# Altium footprint library SnapEDApcb.PcbLib: 1 footprints
Each footprint in its own frame and in the unit in brackets; x right, y up, seen from the top. Pads: shape width x height; smd on the part's side, far side on the other; paste and mask are expansions set on the pad; w line width, h text height; cw(c..) or ccw(c..) is an arc to the next point about the centre after c.
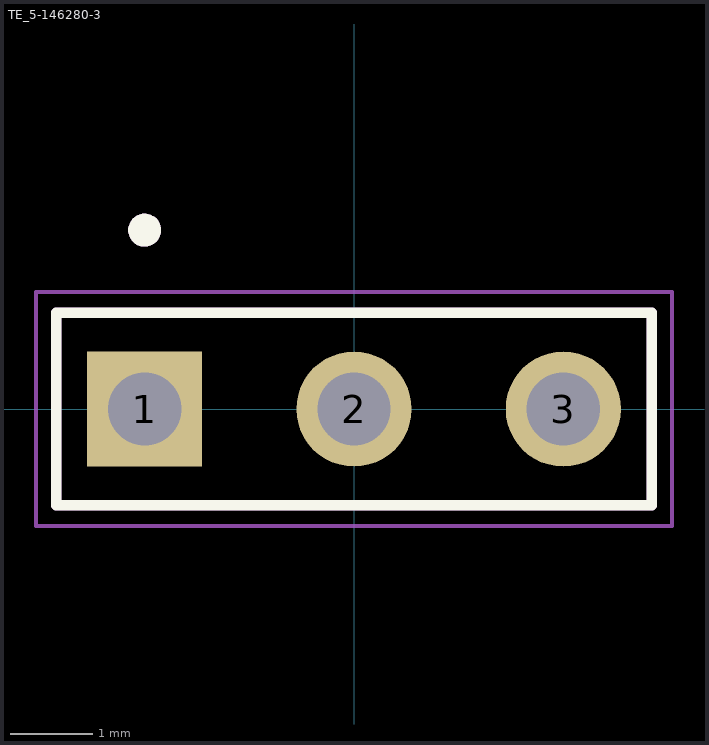
[diagram p0: the footprint, top view; thin cyan lines are the x and y axes]

## TE_5-146280-3 [mm]
pads (3):
  rect 1.398x1.398 hole 0.89: 1(-2.54,0)
  round 1.398 hole 0.89: 2(0,0) 3(2.54,0)
Top Overlay:
  circle w0.2: c-2.54,2.17 r0.1
  lines w0.127: -3.61,-1.17 3.61,-1.17 3.61,1.17 -3.61,1.17 -3.61,-1.17
Mechanical 13:
  circle w0.2: c-2.54,2.17 r0.1
  lines w0.127: -3.61,-1.17 3.61,-1.17 3.61,1.17 -3.61,1.17 -3.61,-1.17
Mechanical 15:
  lines w0.05: -3.86,-1.42 3.86,-1.42 3.86,1.42 -3.86,1.42 -3.86,-1.42
3D body "5-146280-3--3DModel-STEP-1.STEP": height 8.38, standoff -2.79, extent -3.607,-1.168 3.607,1.168